# Altium footprint library AFA01-S08FCA-00.PcbLib: 1 footprints
Each footprint in its own frame and in the unit in brackets; x right, y up, seen from the top. Pads: shape width x height; smd on the part's side, far side on the other; paste and mask are expansions set on the pad; w line width, h text height; cw(c..) or ccw(c..) is an arc to the next point about the centre after c.
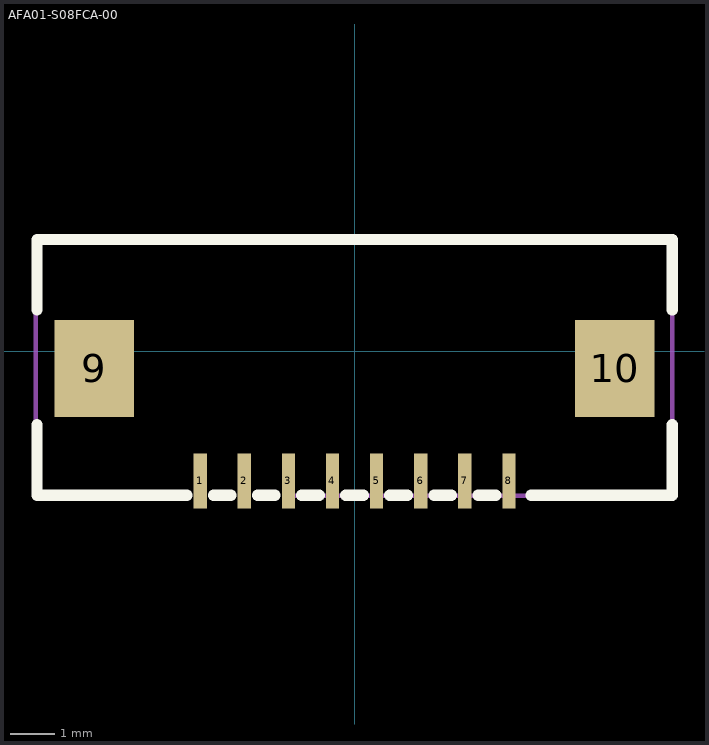
[diagram p0: the footprint, top view; thin cyan lines are the x and y axes]

## AFA01-S08FCA-00 [mm]
height 0.9
pads (10):
  rect 0.3x1.25 smd: 1(-3.5,-2.945) 2(-2.5,-2.945) 3(-1.5,-2.945) 4(-0.5,-2.945) 5(0.5,-2.945) 6(1.5,-2.945) 7(2.5,-2.945) 8(3.5,-2.945)
  rect 1.8x2.2 smd: 9(-5.9,-0.395) 10(5.9,-0.395)
Top Overlay:
  lines w0.254: -7.2,-1.669 -7.2,-3.269 -3.8,-3.269 ; -7.2,0.931 -7.2,2.531 7.2,2.531 7.2,0.931 ; -3.2,-3.269 -2.8,-3.269 ; -2.2,-3.269 -1.8,-3.269 ; -1.2,-3.269 -0.8,-3.269 ; -0.2,-3.269 0.2,-3.269 ; 0.8,-3.269 1.2,-3.269 ; 1.8,-3.269 2.2,-3.269 ; 2.8,-3.269 3.2,-3.269 ; 4,-3.269 7.2,-3.269 7.2,-1.669
Top Assembly:
  lines w0.1: -7.225,-3.294 -7.225,-0.582 -7.225,0.393 -7.225,2.506 ; -1.575,-3.275 7.2,-3.275 7.2,2.525 -1.575,2.525
  text "'.Designator'" at -0.001,-0.001 h0.7
Mechanical 15:
  lines w0.003: -0.001,-0.001 0,0
3D body "7508.stp": height 2.8, standoff 0.1, extent -6.925,-3.55 6.875,2.95